# Altium schematic symbol library ADXL335.SchLib: 1 symbol
Pins are listed as number, name and electrical type; pins without a type are passive.

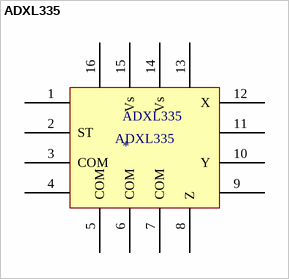
[diagram p0: symbol ADXL335]

## ADXL335
designator ADXL335
footprint ADXL335
pins: 1, 2 ST, 3 COM, 4, 5 COM, 6 COM, 7 COM, 8 Z, 9, 10 Y, 11, 12 X, 13, 14 Vs, 15 Vs, 16